# Altium schematic symbol library jumper.SCHLIB: 86 symbols
Pins are listed as number, name and electrical type; pins without a type are passive.

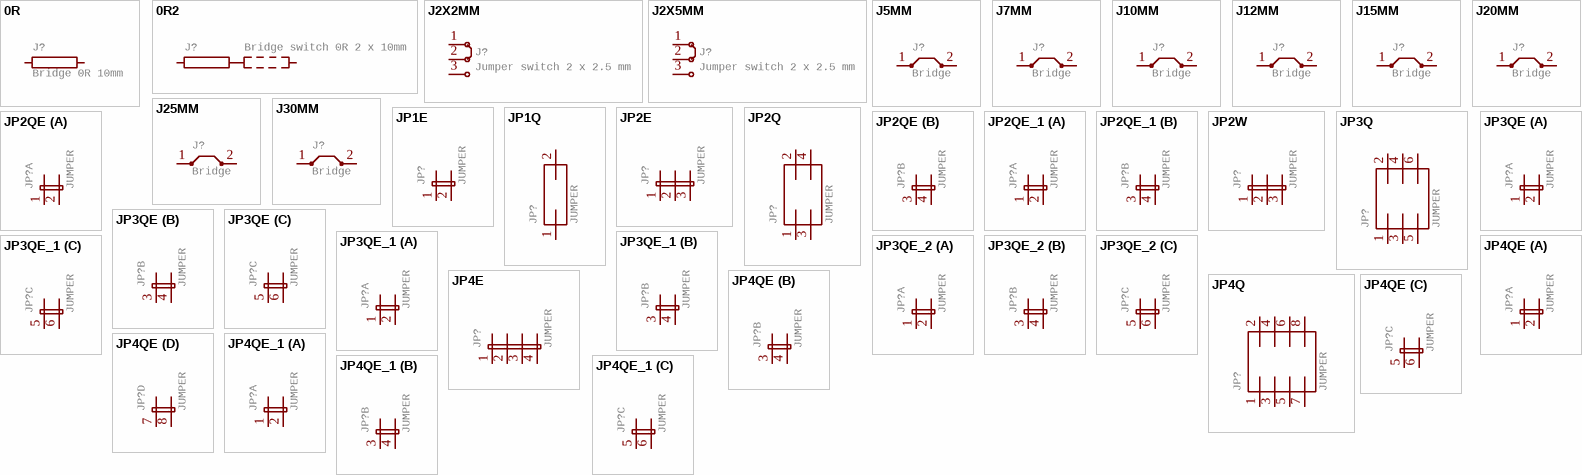
[diagram p0: symbols 0R to JP4QE_1]

## 0R
designator J?, comment Bridge 0R 10mm
GateName_1: 1; POPULARITY: 0; SymbolName_1: 0R; LibraryName: jumper; DeviceSetName: 0R; Package: 0R/10
footprint 0R/10
pins: 1, 2

## 0R2
designator J?, comment Bridge switch 0R 2 x 10mm
GateName_1: 1; SymbolName_1: 0R2; POPULARITY: 0; LibraryName: jumper; DeviceSetName: 0R2; Package: 0R2/10
footprint 0R2/10
pins: 1, 2, 3

## J2X2MM
designator J?, comment Jumper switch 2 x 2.5 mm
GateName_1: G$1; SymbolName_1: J_2; DeviceName: X2MM; DeviceSetName: J2; POPULARITY: 4; LibraryName: jumper; Package: 04C
footprint 04C
pins: 1, 2, 3

## J2X5MM
designator J?, comment Jumper switch 2 x 2.5 mm
GateName_1: G$1; SymbolName_1: J_2; DeviceName: X5MM; DeviceSetName: J2; POPULARITY: 0; LibraryName: jumper; Package: 05C
footprint 05C
pins: 1, 2, 3

## J5MM
designator J?, comment Bridge
GateName_1: 1; SymbolName_1: J; DeviceName: 5MM; POPULARITY: 0; LibraryName: jumper; DeviceSetName: J; Package: 05
footprint 05
pins: 1, 2

## J7MM
designator J?, comment Bridge
GateName_1: 1; SymbolName_1: J; DeviceName: 7MM; POPULARITY: 0; LibraryName: jumper; DeviceSetName: J; Package: 07
footprint 07
pins: 1, 2

## J10MM
designator J?, comment Bridge
GateName_1: 1; SymbolName_1: J; DeviceName: 10MM; POPULARITY: 0; LibraryName: jumper; DeviceSetName: J; Package: 10
footprint 10
pins: 1, 2

## J12MM
designator J?, comment Bridge
GateName_1: 1; SymbolName_1: J; DeviceName: 12MM; POPULARITY: 0; LibraryName: jumper; DeviceSetName: J; Package: 12
footprint 12
pins: 1, 2

## J15MM
designator J?, comment Bridge
GateName_1: 1; SymbolName_1: J; DeviceName: 15MM; POPULARITY: 0; LibraryName: jumper; DeviceSetName: J; Package: 15
footprint 15
pins: 1, 2

## J20MM
designator J?, comment Bridge
GateName_1: 1; SymbolName_1: J; DeviceName: 20MM; POPULARITY: 0; LibraryName: jumper; DeviceSetName: J; Package: 20
footprint 20
pins: 1, 2

## J25MM
designator J?, comment Bridge
GateName_1: 1; SymbolName_1: J; DeviceName: 25MM; POPULARITY: 0; LibraryName: jumper; DeviceSetName: J; Package: 25
footprint 25
pins: 1, 2

## J30MM
designator J?, comment Bridge
GateName_1: 1; SymbolName_1: J; DeviceName: 30MM; POPULARITY: 0; LibraryName: jumper; DeviceSetName: J; Package: 30
footprint 30
pins: 1, 2

## JP1E
designator JP?, comment JUMPER
GateName_1: A; SymbolName_1: JP2E; DeviceSetName: JP1E; POPULARITY: 61; LibraryName: jumper; Package: JP1
footprint JP1
pins: 1, 2

## JP1Q
designator JP?, comment JUMPER
GateName_1: A; SymbolName_1: J1; DeviceSetName: JP1Q; POPULARITY: 15; LibraryName: jumper; Package: JP1
footprint JP1
pins: 1, 2

## JP2E
designator JP?, comment JUMPER
GateName_1: 1; SymbolName_1: JP3E; DeviceSetName: JP2E; POPULARITY: 34; LibraryName: jumper; Package: JP2
footprint JP2
pins: 1, 2, 3

## JP2Q
designator JP?, comment JUMPER
GateName_1: B1; SymbolName_1: J2; DeviceSetName: JP2Q; POPULARITY: 2; LibraryName: jumper; Package: JP2Q
footprint JP2Q
pins: 1, 2, 3, 4

## JP2QE
designator JP?, comment JUMPER
GateName_1: -1; SymbolName_1: JP2E; GateName_2: -2; DeviceSetName: JP2QE; POPULARITY: 1; SymbolName_2: JP2E; LibraryName: jumper; Package: JP2Q
footprint JP2Q
part A pins: 1, 2
part B pins: 3 1, 4 2

## JP2QE_1
designator JP?, comment JUMPER
GateName_1: -1; SymbolName_1: JP2E; GateName_2: -2; DeviceSetName: JP2QE; POPULARITY: 1; SymbolName_2: JP2E; LibraryName: jumper; Package: JP2Q
footprint JP2Q
part A pins: 1, 2
part B pins: 3 1, 4 2

## JP2W
designator JP?, comment JUMPER
GateName_1: 1; SymbolName_1: JP3E; DeviceSetName: JP2W; POPULARITY: 4; LibraryName: jumper; Package: JP2W
footprint JP2W
pins: 1, 2, 3

## JP3Q
designator JP?, comment JUMPER
GateName_1: B; SymbolName_1: J3; DeviceSetName: JP3Q; POPULARITY: 5; LibraryName: jumper; Package: JP3Q
footprint JP3Q
pins: 1, 2, 3, 4, 5, 6

## JP3QE
designator JP?, comment JUMPER
GateName_1: -1; SymbolName_1: JP2E; GateName_2: -2; GateName_3: -3; DeviceSetName: JP3QE; POPULARITY: 0; SymbolName_2: JP2E; SymbolName_3: JP2E; LibraryName: jumper; Package: JP3Q
footprint JP3Q
part A pins: 1, 2
part B pins: 3 1, 4 2
part C pins: 5 1, 6 2

## JP3QE_1
designator JP?, comment JUMPER
GateName_1: -1; SymbolName_1: JP2E; GateName_2: -2; GateName_3: -3; DeviceSetName: JP3QE; POPULARITY: 0; SymbolName_2: JP2E; SymbolName_3: JP2E; LibraryName: jumper; Package: JP3Q
footprint JP3Q
part A pins: 1, 2
part B pins: 3 1, 4 2
part C pins: 5 1, 6 2

## JP3QE_2
designator JP?, comment JUMPER
GateName_1: -1; SymbolName_1: JP2E; GateName_2: -2; GateName_3: -3; DeviceSetName: JP3QE; POPULARITY: 0; SymbolName_2: JP2E; SymbolName_3: JP2E; LibraryName: jumper; Package: JP3Q
footprint JP3Q
part A pins: 1, 2
part B pins: 3 1, 4 2
part C pins: 5 1, 6 2

## JP4E
designator JP?, comment JUMPER
GateName_1: G$1; SymbolName_1: JP4E; POPULARITY: 15; LibraryName: jumper; DeviceSetName: JP4E; Package: JP4
footprint JP4
pins: 1, 2, 3, 4

## JP4Q
designator JP?, comment JUMPER
GateName_1: B; SymbolName_1: J4; DeviceSetName: JP4Q; POPULARITY: 2; LibraryName: jumper; Package: JP4Q
footprint JP4Q
pins: 1, 2, 3, 4, 5, 6, 7, 8

## JP4QE
designator JP?, comment JUMPER
GateName_1: -1; SymbolName_1: JP2E; GateName_2: -2; GateName_3: -3; GateName_4: -4; DeviceSetName: JP4QE; POPULARITY: 0; SymbolName_2: JP2E; SymbolName_3: JP2E; SymbolName_4: JP2E; LibraryName: jumper; Package: JP4Q
footprint JP4Q
part A pins: 1, 2
part B pins: 3 1, 4 2
part C pins: 5 1, 6 2
part D pins: 7 1, 8 2

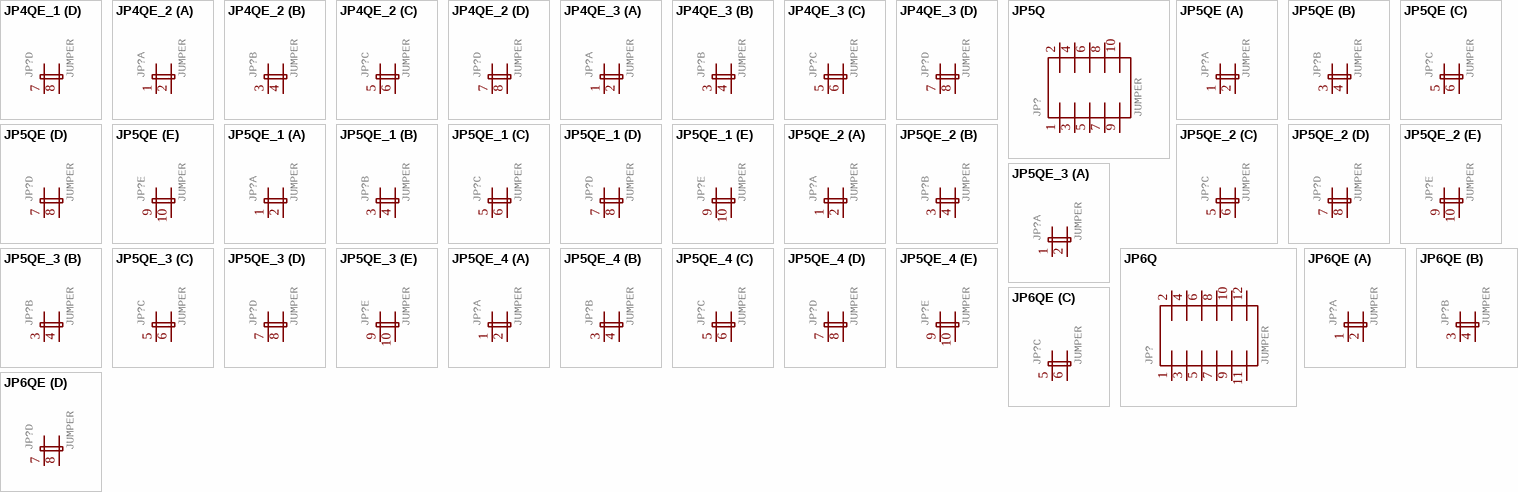
[diagram p1: symbols JP4QE_1 to JP6QE]

## JP4QE_1
designator JP?, comment JUMPER
GateName_1: -1; SymbolName_1: JP2E; GateName_2: -2; GateName_3: -3; GateName_4: -4; DeviceSetName: JP4QE; POPULARITY: 0; SymbolName_2: JP2E; SymbolName_3: JP2E; SymbolName_4: JP2E; LibraryName: jumper; Package: JP4Q
footprint JP4Q
part A pins: 1, 2
part B pins: 3 1, 4 2
part C pins: 5 1, 6 2
part D pins: 7 1, 8 2

## JP4QE_2
designator JP?, comment JUMPER
GateName_1: -1; SymbolName_1: JP2E; GateName_2: -2; GateName_3: -3; GateName_4: -4; DeviceSetName: JP4QE; POPULARITY: 0; SymbolName_2: JP2E; SymbolName_3: JP2E; SymbolName_4: JP2E; LibraryName: jumper; Package: JP4Q
footprint JP4Q
part A pins: 1, 2
part B pins: 3 1, 4 2
part C pins: 5 1, 6 2
part D pins: 7 1, 8 2

## JP4QE_3
designator JP?, comment JUMPER
GateName_1: -1; SymbolName_1: JP2E; GateName_2: -2; GateName_3: -3; GateName_4: -4; DeviceSetName: JP4QE; POPULARITY: 0; SymbolName_2: JP2E; SymbolName_3: JP2E; SymbolName_4: JP2E; LibraryName: jumper; Package: JP4Q
footprint JP4Q
part A pins: 1, 2
part B pins: 3 1, 4 2
part C pins: 5 1, 6 2
part D pins: 7 1, 8 2

## JP5Q
designator JP?, comment JUMPER
GateName_1: B; SymbolName_1: J5; DeviceSetName: JP5Q; POPULARITY: 1; LibraryName: jumper; Package: JP5Q
footprint JP5Q
pins: 1, 2, 3, 4, 5, 6, 7, 8, 9, 10

## JP5QE
designator JP?, comment JUMPER
GateName_1: -1; SymbolName_1: JP2E; GateName_2: -2; GateName_3: -3; GateName_4: -4; GateName_5: -5; DeviceSetName: JP5QE; POPULARITY: 2; SymbolName_2: JP2E; SymbolName_3: JP2E; SymbolName_4: JP2E; SymbolName_5: JP2E; LibraryName: jumper; Package: JP5Q
footprint JP5Q
part A pins: 1, 2
part B pins: 3 1, 4 2
part C pins: 5 1, 6 2
part D pins: 7 1, 8 2
part E pins: 9 1, 10 2

## JP5QE_1
designator JP?, comment JUMPER
GateName_1: -1; SymbolName_1: JP2E; GateName_2: -2; GateName_3: -3; GateName_4: -4; GateName_5: -5; DeviceSetName: JP5QE; POPULARITY: 2; SymbolName_2: JP2E; SymbolName_3: JP2E; SymbolName_4: JP2E; SymbolName_5: JP2E; LibraryName: jumper; Package: JP5Q
footprint JP5Q
part A pins: 1, 2
part B pins: 3 1, 4 2
part C pins: 5 1, 6 2
part D pins: 7 1, 8 2
part E pins: 9 1, 10 2

## JP5QE_2
designator JP?, comment JUMPER
GateName_1: -1; SymbolName_1: JP2E; GateName_2: -2; GateName_3: -3; GateName_4: -4; GateName_5: -5; DeviceSetName: JP5QE; POPULARITY: 2; SymbolName_2: JP2E; SymbolName_3: JP2E; SymbolName_4: JP2E; SymbolName_5: JP2E; LibraryName: jumper; Package: JP5Q
footprint JP5Q
part A pins: 1, 2
part B pins: 3 1, 4 2
part C pins: 5 1, 6 2
part D pins: 7 1, 8 2
part E pins: 9 1, 10 2

## JP5QE_3
designator JP?, comment JUMPER
GateName_1: -1; SymbolName_1: JP2E; GateName_2: -2; GateName_3: -3; GateName_4: -4; GateName_5: -5; DeviceSetName: JP5QE; POPULARITY: 2; SymbolName_2: JP2E; SymbolName_3: JP2E; SymbolName_4: JP2E; SymbolName_5: JP2E; LibraryName: jumper; Package: JP5Q
footprint JP5Q
part A pins: 1, 2
part B pins: 3 1, 4 2
part C pins: 5 1, 6 2
part D pins: 7 1, 8 2
part E pins: 9 1, 10 2

## JP5QE_4
designator JP?, comment JUMPER
GateName_1: -1; SymbolName_1: JP2E; GateName_2: -2; GateName_3: -3; GateName_4: -4; GateName_5: -5; DeviceSetName: JP5QE; POPULARITY: 2; SymbolName_2: JP2E; SymbolName_3: JP2E; SymbolName_4: JP2E; SymbolName_5: JP2E; LibraryName: jumper; Package: JP5Q
footprint JP5Q
part A pins: 1, 2
part B pins: 3 1, 4 2
part C pins: 5 1, 6 2
part D pins: 7 1, 8 2
part E pins: 9 1, 10 2

## JP6Q
designator JP?, comment JUMPER
GateName_1: B; SymbolName_1: J6; DeviceSetName: JP6Q; POPULARITY: 3; LibraryName: jumper; Package: JP6Q
footprint JP6Q
pins: 1, 2, 3, 4, 5, 6, 7, 8, 9, 10, 11, 12

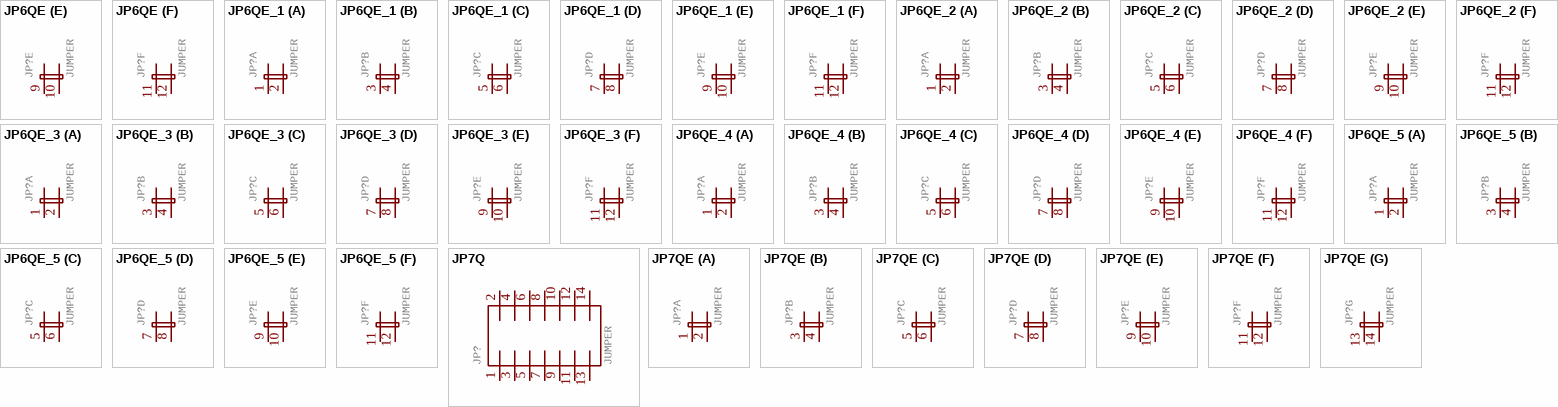
[diagram p2: symbols JP6QE to JP7QE]

## JP6QE
designator JP?, comment JUMPER
GateName_1: -1; SymbolName_1: JP2E; GateName_2: -2; GateName_3: -3; GateName_4: -4; GateName_5: -5; GateName_6: -6; DeviceSetName: JP6QE; POPULARITY: 0; SymbolName_2: JP2E; SymbolName_3: JP2E; SymbolName_4: JP2E; SymbolName_5: JP2E; SymbolName_6: JP2E; LibraryName: jumper; Package: JP6Q
footprint JP6Q
part A pins: 1, 2
part B pins: 3 1, 4 2
part C pins: 5 1, 6 2
part D pins: 7 1, 8 2
part E pins: 9 1, 10 2
part F pins: 11 1, 12 2

## JP6QE_1
designator JP?, comment JUMPER
GateName_1: -1; SymbolName_1: JP2E; GateName_2: -2; GateName_3: -3; GateName_4: -4; GateName_5: -5; GateName_6: -6; DeviceSetName: JP6QE; POPULARITY: 0; SymbolName_2: JP2E; SymbolName_3: JP2E; SymbolName_4: JP2E; SymbolName_5: JP2E; SymbolName_6: JP2E; LibraryName: jumper; Package: JP6Q
footprint JP6Q
part A pins: 1, 2
part B pins: 3 1, 4 2
part C pins: 5 1, 6 2
part D pins: 7 1, 8 2
part E pins: 9 1, 10 2
part F pins: 11 1, 12 2

## JP6QE_2
designator JP?, comment JUMPER
GateName_1: -1; SymbolName_1: JP2E; GateName_2: -2; GateName_3: -3; GateName_4: -4; GateName_5: -5; GateName_6: -6; DeviceSetName: JP6QE; POPULARITY: 0; SymbolName_2: JP2E; SymbolName_3: JP2E; SymbolName_4: JP2E; SymbolName_5: JP2E; SymbolName_6: JP2E; LibraryName: jumper; Package: JP6Q
footprint JP6Q
part A pins: 1, 2
part B pins: 3 1, 4 2
part C pins: 5 1, 6 2
part D pins: 7 1, 8 2
part E pins: 9 1, 10 2
part F pins: 11 1, 12 2

## JP6QE_3
designator JP?, comment JUMPER
GateName_1: -1; SymbolName_1: JP2E; GateName_2: -2; GateName_3: -3; GateName_4: -4; GateName_5: -5; GateName_6: -6; DeviceSetName: JP6QE; POPULARITY: 0; SymbolName_2: JP2E; SymbolName_3: JP2E; SymbolName_4: JP2E; SymbolName_5: JP2E; SymbolName_6: JP2E; LibraryName: jumper; Package: JP6Q
footprint JP6Q
part A pins: 1, 2
part B pins: 3 1, 4 2
part C pins: 5 1, 6 2
part D pins: 7 1, 8 2
part E pins: 9 1, 10 2
part F pins: 11 1, 12 2

## JP6QE_4
designator JP?, comment JUMPER
GateName_1: -1; SymbolName_1: JP2E; GateName_2: -2; GateName_3: -3; GateName_4: -4; GateName_5: -5; GateName_6: -6; DeviceSetName: JP6QE; POPULARITY: 0; SymbolName_2: JP2E; SymbolName_3: JP2E; SymbolName_4: JP2E; SymbolName_5: JP2E; SymbolName_6: JP2E; LibraryName: jumper; Package: JP6Q
footprint JP6Q
part A pins: 1, 2
part B pins: 3 1, 4 2
part C pins: 5 1, 6 2
part D pins: 7 1, 8 2
part E pins: 9 1, 10 2
part F pins: 11 1, 12 2

## JP6QE_5
designator JP?, comment JUMPER
GateName_1: -1; SymbolName_1: JP2E; GateName_2: -2; GateName_3: -3; GateName_4: -4; GateName_5: -5; GateName_6: -6; DeviceSetName: JP6QE; POPULARITY: 0; SymbolName_2: JP2E; SymbolName_3: JP2E; SymbolName_4: JP2E; SymbolName_5: JP2E; SymbolName_6: JP2E; LibraryName: jumper; Package: JP6Q
footprint JP6Q
part A pins: 1, 2
part B pins: 3 1, 4 2
part C pins: 5 1, 6 2
part D pins: 7 1, 8 2
part E pins: 9 1, 10 2
part F pins: 11 1, 12 2

## JP7Q
designator JP?, comment JUMPER
GateName_1: B; SymbolName_1: J7; DeviceSetName: JP7Q; POPULARITY: 2; LibraryName: jumper; Package: JP7Q
footprint JP7Q
pins: 1, 2, 3, 4, 5, 6, 7, 8, 9, 10, 11, 12, 13, 14

## JP7QE
designator JP?, comment JUMPER
GateName_1: -1; SymbolName_1: JP2E; GateName_2: -2; GateName_3: -3; GateName_4: -4; GateName_5: -5; GateName_6: -6; GateName_7: -7; DeviceSetName: JP7QE; POPULARITY: 0; SymbolName_2: JP2E; SymbolName_3: JP2E; SymbolName_4: JP2E; SymbolName_5: JP2E; SymbolName_6: JP2E; SymbolName_7: JP2E; LibraryName: jumper; Package: JP7Q
footprint JP7Q
part A pins: 1, 2
part B pins: 3 1, 4 2
part C pins: 5 1, 6 2
part D pins: 7 1, 8 2
part E pins: 9 1, 10 2
part F pins: 11 1, 12 2
part G pins: 13 1, 14 2

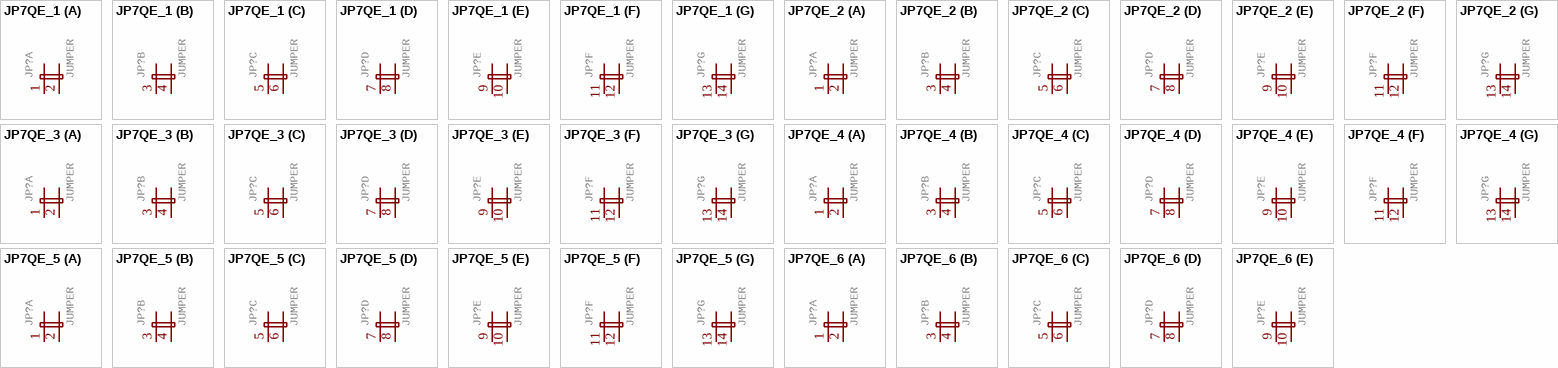
[diagram p3: symbols JP7QE_1 to JP7QE_6]

## JP7QE_1
designator JP?, comment JUMPER
GateName_1: -1; SymbolName_1: JP2E; GateName_2: -2; GateName_3: -3; GateName_4: -4; GateName_5: -5; GateName_6: -6; GateName_7: -7; DeviceSetName: JP7QE; POPULARITY: 0; SymbolName_2: JP2E; SymbolName_3: JP2E; SymbolName_4: JP2E; SymbolName_5: JP2E; SymbolName_6: JP2E; SymbolName_7: JP2E; LibraryName: jumper; Package: JP7Q
footprint JP7Q
part A pins: 1, 2
part B pins: 3 1, 4 2
part C pins: 5 1, 6 2
part D pins: 7 1, 8 2
part E pins: 9 1, 10 2
part F pins: 11 1, 12 2
part G pins: 13 1, 14 2

## JP7QE_2
designator JP?, comment JUMPER
GateName_1: -1; SymbolName_1: JP2E; GateName_2: -2; GateName_3: -3; GateName_4: -4; GateName_5: -5; GateName_6: -6; GateName_7: -7; DeviceSetName: JP7QE; POPULARITY: 0; SymbolName_2: JP2E; SymbolName_3: JP2E; SymbolName_4: JP2E; SymbolName_5: JP2E; SymbolName_6: JP2E; SymbolName_7: JP2E; LibraryName: jumper; Package: JP7Q
footprint JP7Q
part A pins: 1, 2
part B pins: 3 1, 4 2
part C pins: 5 1, 6 2
part D pins: 7 1, 8 2
part E pins: 9 1, 10 2
part F pins: 11 1, 12 2
part G pins: 13 1, 14 2

## JP7QE_3
designator JP?, comment JUMPER
GateName_1: -1; SymbolName_1: JP2E; GateName_2: -2; GateName_3: -3; GateName_4: -4; GateName_5: -5; GateName_6: -6; GateName_7: -7; DeviceSetName: JP7QE; POPULARITY: 0; SymbolName_2: JP2E; SymbolName_3: JP2E; SymbolName_4: JP2E; SymbolName_5: JP2E; SymbolName_6: JP2E; SymbolName_7: JP2E; LibraryName: jumper; Package: JP7Q
footprint JP7Q
part A pins: 1, 2
part B pins: 3 1, 4 2
part C pins: 5 1, 6 2
part D pins: 7 1, 8 2
part E pins: 9 1, 10 2
part F pins: 11 1, 12 2
part G pins: 13 1, 14 2

## JP7QE_4
designator JP?, comment JUMPER
GateName_1: -1; SymbolName_1: JP2E; GateName_2: -2; GateName_3: -3; GateName_4: -4; GateName_5: -5; GateName_6: -6; GateName_7: -7; DeviceSetName: JP7QE; POPULARITY: 0; SymbolName_2: JP2E; SymbolName_3: JP2E; SymbolName_4: JP2E; SymbolName_5: JP2E; SymbolName_6: JP2E; SymbolName_7: JP2E; LibraryName: jumper; Package: JP7Q
footprint JP7Q
part A pins: 1, 2
part B pins: 3 1, 4 2
part C pins: 5 1, 6 2
part D pins: 7 1, 8 2
part E pins: 9 1, 10 2
part F pins: 11 1, 12 2
part G pins: 13 1, 14 2

## JP7QE_5
designator JP?, comment JUMPER
GateName_1: -1; SymbolName_1: JP2E; GateName_2: -2; GateName_3: -3; GateName_4: -4; GateName_5: -5; GateName_6: -6; GateName_7: -7; DeviceSetName: JP7QE; POPULARITY: 0; SymbolName_2: JP2E; SymbolName_3: JP2E; SymbolName_4: JP2E; SymbolName_5: JP2E; SymbolName_6: JP2E; SymbolName_7: JP2E; LibraryName: jumper; Package: JP7Q
footprint JP7Q
part A pins: 1, 2
part B pins: 3 1, 4 2
part C pins: 5 1, 6 2
part D pins: 7 1, 8 2
part E pins: 9 1, 10 2
part F pins: 11 1, 12 2
part G pins: 13 1, 14 2

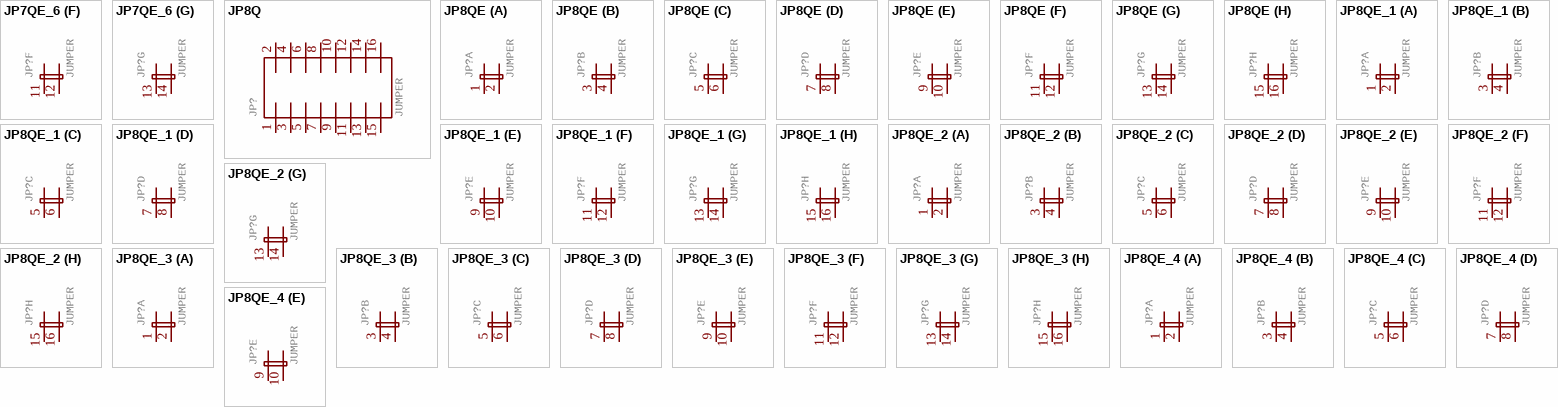
[diagram p4: symbols JP7QE_6 to JP8QE_4]

## JP7QE_6
designator JP?, comment JUMPER
GateName_1: -1; SymbolName_1: JP2E; GateName_2: -2; GateName_3: -3; GateName_4: -4; GateName_5: -5; GateName_6: -6; GateName_7: -7; DeviceSetName: JP7QE; POPULARITY: 0; SymbolName_2: JP2E; SymbolName_3: JP2E; SymbolName_4: JP2E; SymbolName_5: JP2E; SymbolName_6: JP2E; SymbolName_7: JP2E; LibraryName: jumper; Package: JP7Q
footprint JP7Q
part A pins: 1, 2
part B pins: 3 1, 4 2
part C pins: 5 1, 6 2
part D pins: 7 1, 8 2
part E pins: 9 1, 10 2
part F pins: 11 1, 12 2
part G pins: 13 1, 14 2

## JP8Q
designator JP?, comment JUMPER
GateName_1: B; SymbolName_1: J8; DeviceSetName: JP8Q; POPULARITY: 2; LibraryName: jumper; Package: JP8Q
footprint JP8Q
pins: 1, 2, 3, 4, 5, 6, 7, 8, 9, 10, 11, 12, 13, 14, 15, 16

## JP8QE
designator JP?, comment JUMPER
GateName_1: -1; SymbolName_1: JP2E; GateName_2: -2; GateName_3: -3; GateName_4: -4; GateName_5: -5; GateName_6: -6; GateName_7: -7; GateName_8: -8; DeviceSetName: JP8QE; POPULARITY: 1; SymbolName_2: JP2E; SymbolName_3: JP2E; SymbolName_4: JP2E; SymbolName_5: JP2E; SymbolName_6: JP2E; SymbolName_7: JP2E; SymbolName_8: JP2E; LibraryName: jumper; Package: JP8Q
footprint JP8Q
part A pins: 1, 2
part B pins: 3 1, 4 2
part C pins: 5 1, 6 2
part D pins: 7 1, 8 2
part E pins: 9 1, 10 2
part F pins: 11 1, 12 2
part G pins: 13 1, 14 2
part H pins: 15 1, 16 2

## JP8QE_1
designator JP?, comment JUMPER
GateName_1: -1; SymbolName_1: JP2E; GateName_2: -2; GateName_3: -3; GateName_4: -4; GateName_5: -5; GateName_6: -6; GateName_7: -7; GateName_8: -8; DeviceSetName: JP8QE; POPULARITY: 1; SymbolName_2: JP2E; SymbolName_3: JP2E; SymbolName_4: JP2E; SymbolName_5: JP2E; SymbolName_6: JP2E; SymbolName_7: JP2E; SymbolName_8: JP2E; LibraryName: jumper; Package: JP8Q
footprint JP8Q
part A pins: 1, 2
part B pins: 3 1, 4 2
part C pins: 5 1, 6 2
part D pins: 7 1, 8 2
part E pins: 9 1, 10 2
part F pins: 11 1, 12 2
part G pins: 13 1, 14 2
part H pins: 15 1, 16 2

## JP8QE_2
designator JP?, comment JUMPER
GateName_1: -1; SymbolName_1: JP2E; GateName_2: -2; GateName_3: -3; GateName_4: -4; GateName_5: -5; GateName_6: -6; GateName_7: -7; GateName_8: -8; DeviceSetName: JP8QE; POPULARITY: 1; SymbolName_2: JP2E; SymbolName_3: JP2E; SymbolName_4: JP2E; SymbolName_5: JP2E; SymbolName_6: JP2E; SymbolName_7: JP2E; SymbolName_8: JP2E; LibraryName: jumper; Package: JP8Q
footprint JP8Q
part A pins: 1, 2
part B pins: 3 1, 4 2
part C pins: 5 1, 6 2
part D pins: 7 1, 8 2
part E pins: 9 1, 10 2
part F pins: 11 1, 12 2
part G pins: 13 1, 14 2
part H pins: 15 1, 16 2

## JP8QE_3
designator JP?, comment JUMPER
GateName_1: -1; SymbolName_1: JP2E; GateName_2: -2; GateName_3: -3; GateName_4: -4; GateName_5: -5; GateName_6: -6; GateName_7: -7; GateName_8: -8; DeviceSetName: JP8QE; POPULARITY: 1; SymbolName_2: JP2E; SymbolName_3: JP2E; SymbolName_4: JP2E; SymbolName_5: JP2E; SymbolName_6: JP2E; SymbolName_7: JP2E; SymbolName_8: JP2E; LibraryName: jumper; Package: JP8Q
footprint JP8Q
part A pins: 1, 2
part B pins: 3 1, 4 2
part C pins: 5 1, 6 2
part D pins: 7 1, 8 2
part E pins: 9 1, 10 2
part F pins: 11 1, 12 2
part G pins: 13 1, 14 2
part H pins: 15 1, 16 2

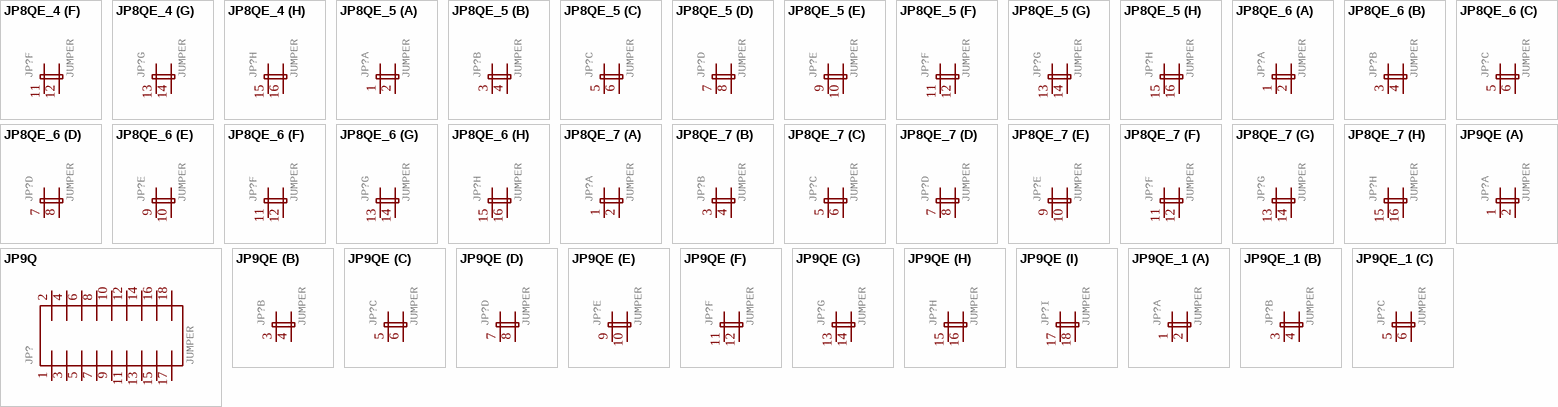
[diagram p5: symbols JP8QE_4 to JP9QE_1]

## JP8QE_4
designator JP?, comment JUMPER
GateName_1: -1; SymbolName_1: JP2E; GateName_2: -2; GateName_3: -3; GateName_4: -4; GateName_5: -5; GateName_6: -6; GateName_7: -7; GateName_8: -8; DeviceSetName: JP8QE; POPULARITY: 1; SymbolName_2: JP2E; SymbolName_3: JP2E; SymbolName_4: JP2E; SymbolName_5: JP2E; SymbolName_6: JP2E; SymbolName_7: JP2E; SymbolName_8: JP2E; LibraryName: jumper; Package: JP8Q
footprint JP8Q
part A pins: 1, 2
part B pins: 3 1, 4 2
part C pins: 5 1, 6 2
part D pins: 7 1, 8 2
part E pins: 9 1, 10 2
part F pins: 11 1, 12 2
part G pins: 13 1, 14 2
part H pins: 15 1, 16 2

## JP8QE_5
designator JP?, comment JUMPER
GateName_1: -1; SymbolName_1: JP2E; GateName_2: -2; GateName_3: -3; GateName_4: -4; GateName_5: -5; GateName_6: -6; GateName_7: -7; GateName_8: -8; DeviceSetName: JP8QE; POPULARITY: 1; SymbolName_2: JP2E; SymbolName_3: JP2E; SymbolName_4: JP2E; SymbolName_5: JP2E; SymbolName_6: JP2E; SymbolName_7: JP2E; SymbolName_8: JP2E; LibraryName: jumper; Package: JP8Q
footprint JP8Q
part A pins: 1, 2
part B pins: 3 1, 4 2
part C pins: 5 1, 6 2
part D pins: 7 1, 8 2
part E pins: 9 1, 10 2
part F pins: 11 1, 12 2
part G pins: 13 1, 14 2
part H pins: 15 1, 16 2

## JP8QE_6
designator JP?, comment JUMPER
GateName_1: -1; SymbolName_1: JP2E; GateName_2: -2; GateName_3: -3; GateName_4: -4; GateName_5: -5; GateName_6: -6; GateName_7: -7; GateName_8: -8; DeviceSetName: JP8QE; POPULARITY: 1; SymbolName_2: JP2E; SymbolName_3: JP2E; SymbolName_4: JP2E; SymbolName_5: JP2E; SymbolName_6: JP2E; SymbolName_7: JP2E; SymbolName_8: JP2E; LibraryName: jumper; Package: JP8Q
footprint JP8Q
part A pins: 1, 2
part B pins: 3 1, 4 2
part C pins: 5 1, 6 2
part D pins: 7 1, 8 2
part E pins: 9 1, 10 2
part F pins: 11 1, 12 2
part G pins: 13 1, 14 2
part H pins: 15 1, 16 2

## JP8QE_7
designator JP?, comment JUMPER
GateName_1: -1; SymbolName_1: JP2E; GateName_2: -2; GateName_3: -3; GateName_4: -4; GateName_5: -5; GateName_6: -6; GateName_7: -7; GateName_8: -8; DeviceSetName: JP8QE; POPULARITY: 1; SymbolName_2: JP2E; SymbolName_3: JP2E; SymbolName_4: JP2E; SymbolName_5: JP2E; SymbolName_6: JP2E; SymbolName_7: JP2E; SymbolName_8: JP2E; LibraryName: jumper; Package: JP8Q
footprint JP8Q
part A pins: 1, 2
part B pins: 3 1, 4 2
part C pins: 5 1, 6 2
part D pins: 7 1, 8 2
part E pins: 9 1, 10 2
part F pins: 11 1, 12 2
part G pins: 13 1, 14 2
part H pins: 15 1, 16 2

## JP9Q
designator JP?, comment JUMPER
GateName_1: B; SymbolName_1: J9; DeviceSetName: JP9Q; POPULARITY: 1; LibraryName: jumper; Package: JP9Q
footprint JP9Q
pins: 1, 2, 3, 4, 5, 6, 7, 8, 9, 10, 11, 12, 13, 14, 15, 16, 17, 18

## JP9QE
designator JP?, comment JUMPER
GateName_1: -1; SymbolName_1: JP2E; GateName_2: -2; GateName_3: -3; GateName_4: -4; GateName_5: -5; GateName_6: -6; GateName_7: -7; GateName_8: -8; GateName_9: -9; DeviceSetName: JP9QE; POPULARITY: 0; SymbolName_2: JP2E; SymbolName_3: JP2E; SymbolName_4: JP2E; SymbolName_5: JP2E; SymbolName_6: JP2E; SymbolName_7: JP2E; SymbolName_8: JP2E; SymbolName_9: JP2E; LibraryName: jumper; Package: JP9Q
footprint JP9Q
part A pins: 1, 2
part B pins: 3 1, 4 2
part C pins: 5 1, 6 2
part D pins: 7 1, 8 2
part E pins: 9 1, 10 2
part F pins: 11 1, 12 2
part G pins: 13 1, 14 2
part H pins: 15 1, 16 2
part I pins: 17 1, 18 2

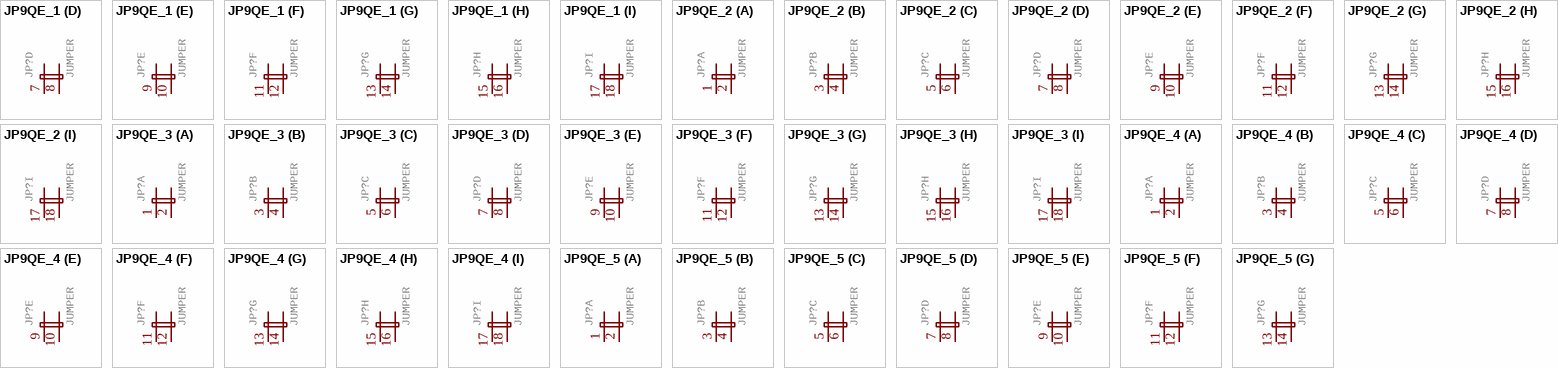
[diagram p6: symbols JP9QE_1 to JP9QE_5]

## JP9QE_1
designator JP?, comment JUMPER
GateName_1: -1; SymbolName_1: JP2E; GateName_2: -2; GateName_3: -3; GateName_4: -4; GateName_5: -5; GateName_6: -6; GateName_7: -7; GateName_8: -8; GateName_9: -9; DeviceSetName: JP9QE; POPULARITY: 0; SymbolName_2: JP2E; SymbolName_3: JP2E; SymbolName_4: JP2E; SymbolName_5: JP2E; SymbolName_6: JP2E; SymbolName_7: JP2E; SymbolName_8: JP2E; SymbolName_9: JP2E; LibraryName: jumper; Package: JP9Q
footprint JP9Q
part A pins: 1, 2
part B pins: 3 1, 4 2
part C pins: 5 1, 6 2
part D pins: 7 1, 8 2
part E pins: 9 1, 10 2
part F pins: 11 1, 12 2
part G pins: 13 1, 14 2
part H pins: 15 1, 16 2
part I pins: 17 1, 18 2

## JP9QE_2
designator JP?, comment JUMPER
GateName_1: -1; SymbolName_1: JP2E; GateName_2: -2; GateName_3: -3; GateName_4: -4; GateName_5: -5; GateName_6: -6; GateName_7: -7; GateName_8: -8; GateName_9: -9; DeviceSetName: JP9QE; POPULARITY: 0; SymbolName_2: JP2E; SymbolName_3: JP2E; SymbolName_4: JP2E; SymbolName_5: JP2E; SymbolName_6: JP2E; SymbolName_7: JP2E; SymbolName_8: JP2E; SymbolName_9: JP2E; LibraryName: jumper; Package: JP9Q
footprint JP9Q
part A pins: 1, 2
part B pins: 3 1, 4 2
part C pins: 5 1, 6 2
part D pins: 7 1, 8 2
part E pins: 9 1, 10 2
part F pins: 11 1, 12 2
part G pins: 13 1, 14 2
part H pins: 15 1, 16 2
part I pins: 17 1, 18 2

## JP9QE_3
designator JP?, comment JUMPER
GateName_1: -1; SymbolName_1: JP2E; GateName_2: -2; GateName_3: -3; GateName_4: -4; GateName_5: -5; GateName_6: -6; GateName_7: -7; GateName_8: -8; GateName_9: -9; DeviceSetName: JP9QE; POPULARITY: 0; SymbolName_2: JP2E; SymbolName_3: JP2E; SymbolName_4: JP2E; SymbolName_5: JP2E; SymbolName_6: JP2E; SymbolName_7: JP2E; SymbolName_8: JP2E; SymbolName_9: JP2E; LibraryName: jumper; Package: JP9Q
footprint JP9Q
part A pins: 1, 2
part B pins: 3 1, 4 2
part C pins: 5 1, 6 2
part D pins: 7 1, 8 2
part E pins: 9 1, 10 2
part F pins: 11 1, 12 2
part G pins: 13 1, 14 2
part H pins: 15 1, 16 2
part I pins: 17 1, 18 2

## JP9QE_4
designator JP?, comment JUMPER
GateName_1: -1; SymbolName_1: JP2E; GateName_2: -2; GateName_3: -3; GateName_4: -4; GateName_5: -5; GateName_6: -6; GateName_7: -7; GateName_8: -8; GateName_9: -9; DeviceSetName: JP9QE; POPULARITY: 0; SymbolName_2: JP2E; SymbolName_3: JP2E; SymbolName_4: JP2E; SymbolName_5: JP2E; SymbolName_6: JP2E; SymbolName_7: JP2E; SymbolName_8: JP2E; SymbolName_9: JP2E; LibraryName: jumper; Package: JP9Q
footprint JP9Q
part A pins: 1, 2
part B pins: 3 1, 4 2
part C pins: 5 1, 6 2
part D pins: 7 1, 8 2
part E pins: 9 1, 10 2
part F pins: 11 1, 12 2
part G pins: 13 1, 14 2
part H pins: 15 1, 16 2
part I pins: 17 1, 18 2

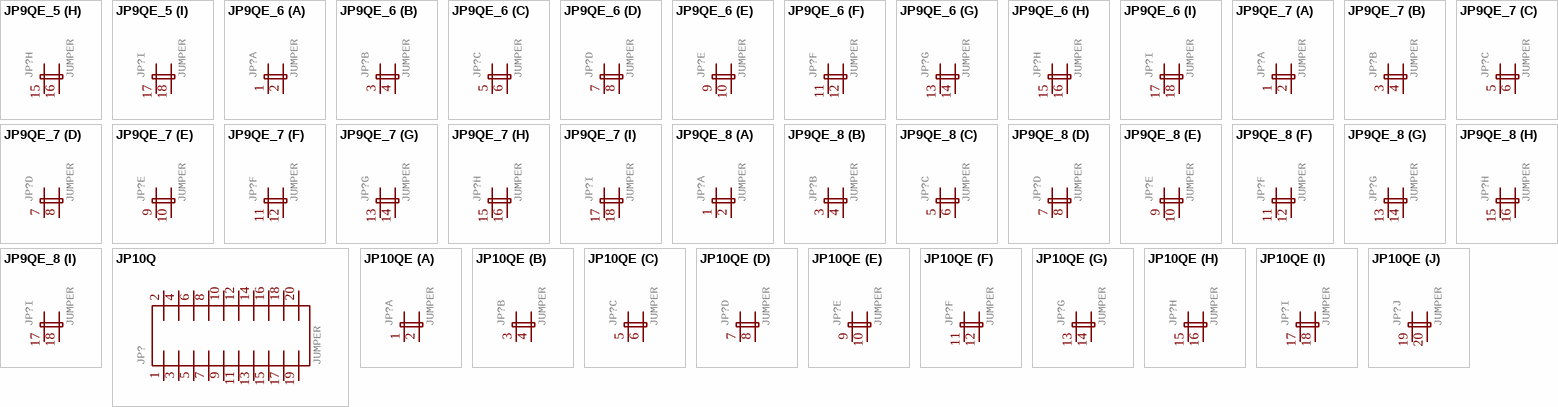
[diagram p7: symbols JP9QE_5 to JP10QE]

## JP9QE_5
designator JP?, comment JUMPER
GateName_1: -1; SymbolName_1: JP2E; GateName_2: -2; GateName_3: -3; GateName_4: -4; GateName_5: -5; GateName_6: -6; GateName_7: -7; GateName_8: -8; GateName_9: -9; DeviceSetName: JP9QE; POPULARITY: 0; SymbolName_2: JP2E; SymbolName_3: JP2E; SymbolName_4: JP2E; SymbolName_5: JP2E; SymbolName_6: JP2E; SymbolName_7: JP2E; SymbolName_8: JP2E; SymbolName_9: JP2E; LibraryName: jumper; Package: JP9Q
footprint JP9Q
part A pins: 1, 2
part B pins: 3 1, 4 2
part C pins: 5 1, 6 2
part D pins: 7 1, 8 2
part E pins: 9 1, 10 2
part F pins: 11 1, 12 2
part G pins: 13 1, 14 2
part H pins: 15 1, 16 2
part I pins: 17 1, 18 2

## JP9QE_6
designator JP?, comment JUMPER
GateName_1: -1; SymbolName_1: JP2E; GateName_2: -2; GateName_3: -3; GateName_4: -4; GateName_5: -5; GateName_6: -6; GateName_7: -7; GateName_8: -8; GateName_9: -9; DeviceSetName: JP9QE; POPULARITY: 0; SymbolName_2: JP2E; SymbolName_3: JP2E; SymbolName_4: JP2E; SymbolName_5: JP2E; SymbolName_6: JP2E; SymbolName_7: JP2E; SymbolName_8: JP2E; SymbolName_9: JP2E; LibraryName: jumper; Package: JP9Q
footprint JP9Q
part A pins: 1, 2
part B pins: 3 1, 4 2
part C pins: 5 1, 6 2
part D pins: 7 1, 8 2
part E pins: 9 1, 10 2
part F pins: 11 1, 12 2
part G pins: 13 1, 14 2
part H pins: 15 1, 16 2
part I pins: 17 1, 18 2

## JP9QE_7
designator JP?, comment JUMPER
GateName_1: -1; SymbolName_1: JP2E; GateName_2: -2; GateName_3: -3; GateName_4: -4; GateName_5: -5; GateName_6: -6; GateName_7: -7; GateName_8: -8; GateName_9: -9; DeviceSetName: JP9QE; POPULARITY: 0; SymbolName_2: JP2E; SymbolName_3: JP2E; SymbolName_4: JP2E; SymbolName_5: JP2E; SymbolName_6: JP2E; SymbolName_7: JP2E; SymbolName_8: JP2E; SymbolName_9: JP2E; LibraryName: jumper; Package: JP9Q
footprint JP9Q
part A pins: 1, 2
part B pins: 3 1, 4 2
part C pins: 5 1, 6 2
part D pins: 7 1, 8 2
part E pins: 9 1, 10 2
part F pins: 11 1, 12 2
part G pins: 13 1, 14 2
part H pins: 15 1, 16 2
part I pins: 17 1, 18 2

## JP9QE_8
designator JP?, comment JUMPER
GateName_1: -1; SymbolName_1: JP2E; GateName_2: -2; GateName_3: -3; GateName_4: -4; GateName_5: -5; GateName_6: -6; GateName_7: -7; GateName_8: -8; GateName_9: -9; DeviceSetName: JP9QE; POPULARITY: 0; SymbolName_2: JP2E; SymbolName_3: JP2E; SymbolName_4: JP2E; SymbolName_5: JP2E; SymbolName_6: JP2E; SymbolName_7: JP2E; SymbolName_8: JP2E; SymbolName_9: JP2E; LibraryName: jumper; Package: JP9Q
footprint JP9Q
part A pins: 1, 2
part B pins: 3 1, 4 2
part C pins: 5 1, 6 2
part D pins: 7 1, 8 2
part E pins: 9 1, 10 2
part F pins: 11 1, 12 2
part G pins: 13 1, 14 2
part H pins: 15 1, 16 2
part I pins: 17 1, 18 2

## JP10Q
designator JP?, comment JUMPER
GateName_1: B; SymbolName_1: J10; DeviceSetName: JP10Q; POPULARITY: 2; LibraryName: jumper; Package: JP10Q
footprint JP10Q
pins: 1, 2, 3, 4, 5, 6, 7, 8, 9, 10, 11, 12, 13, 14, 15, 16, 17, 18, 19, 20

## JP10QE
designator JP?, comment JUMPER
GateName_1: -1; SymbolName_1: JP2E; GateName_2: -2; GateName_3: -3; GateName_4: -4; GateName_5: -5; GateName_6: -6; GateName_7: -7; GateName_8: -8; GateName_9: -9; GateName_10: -10; DeviceSetName: JP10QE; POPULARITY: 0; SymbolName_2: JP2E; SymbolName_3: JP2E; SymbolName_4: JP2E; SymbolName_5: JP2E; SymbolName_6: JP2E; SymbolName_7: JP2E; SymbolName_8: JP2E; SymbolName_9: JP2E; SymbolName_10: JP2E; LibraryName: jumper; Package: JP10Q
footprint JP10Q
part A pins: 1, 2
part B pins: 3 1, 4 2
part C pins: 5 1, 6 2
part D pins: 7 1, 8 2
part E pins: 9 1, 10 2
part F pins: 11 1, 12 2
part G pins: 13 1, 14 2
part H pins: 15 1, 16 2
part I pins: 17 1, 18 2
part J pins: 19 1, 20 2

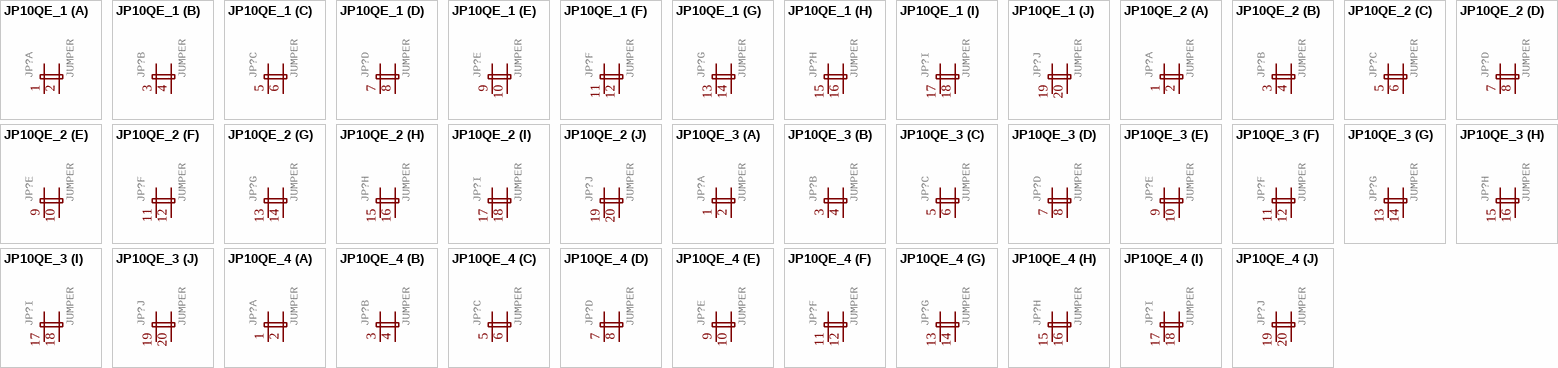
[diagram p8: symbols JP10QE_1 to JP10QE_4]

## JP10QE_1
designator JP?, comment JUMPER
GateName_1: -1; SymbolName_1: JP2E; GateName_2: -2; GateName_3: -3; GateName_4: -4; GateName_5: -5; GateName_6: -6; GateName_7: -7; GateName_8: -8; GateName_9: -9; GateName_10: -10; DeviceSetName: JP10QE; POPULARITY: 0; SymbolName_2: JP2E; SymbolName_3: JP2E; SymbolName_4: JP2E; SymbolName_5: JP2E; SymbolName_6: JP2E; SymbolName_7: JP2E; SymbolName_8: JP2E; SymbolName_9: JP2E; SymbolName_10: JP2E; LibraryName: jumper; Package: JP10Q
footprint JP10Q
part A pins: 1, 2
part B pins: 3 1, 4 2
part C pins: 5 1, 6 2
part D pins: 7 1, 8 2
part E pins: 9 1, 10 2
part F pins: 11 1, 12 2
part G pins: 13 1, 14 2
part H pins: 15 1, 16 2
part I pins: 17 1, 18 2
part J pins: 19 1, 20 2

## JP10QE_2
designator JP?, comment JUMPER
GateName_1: -1; SymbolName_1: JP2E; GateName_2: -2; GateName_3: -3; GateName_4: -4; GateName_5: -5; GateName_6: -6; GateName_7: -7; GateName_8: -8; GateName_9: -9; GateName_10: -10; DeviceSetName: JP10QE; POPULARITY: 0; SymbolName_2: JP2E; SymbolName_3: JP2E; SymbolName_4: JP2E; SymbolName_5: JP2E; SymbolName_6: JP2E; SymbolName_7: JP2E; SymbolName_8: JP2E; SymbolName_9: JP2E; SymbolName_10: JP2E; LibraryName: jumper; Package: JP10Q
footprint JP10Q
part A pins: 1, 2
part B pins: 3 1, 4 2
part C pins: 5 1, 6 2
part D pins: 7 1, 8 2
part E pins: 9 1, 10 2
part F pins: 11 1, 12 2
part G pins: 13 1, 14 2
part H pins: 15 1, 16 2
part I pins: 17 1, 18 2
part J pins: 19 1, 20 2

## JP10QE_3
designator JP?, comment JUMPER
GateName_1: -1; SymbolName_1: JP2E; GateName_2: -2; GateName_3: -3; GateName_4: -4; GateName_5: -5; GateName_6: -6; GateName_7: -7; GateName_8: -8; GateName_9: -9; GateName_10: -10; DeviceSetName: JP10QE; POPULARITY: 0; SymbolName_2: JP2E; SymbolName_3: JP2E; SymbolName_4: JP2E; SymbolName_5: JP2E; SymbolName_6: JP2E; SymbolName_7: JP2E; SymbolName_8: JP2E; SymbolName_9: JP2E; SymbolName_10: JP2E; LibraryName: jumper; Package: JP10Q
footprint JP10Q
part A pins: 1, 2
part B pins: 3 1, 4 2
part C pins: 5 1, 6 2
part D pins: 7 1, 8 2
part E pins: 9 1, 10 2
part F pins: 11 1, 12 2
part G pins: 13 1, 14 2
part H pins: 15 1, 16 2
part I pins: 17 1, 18 2
part J pins: 19 1, 20 2

## JP10QE_4
designator JP?, comment JUMPER
GateName_1: -1; SymbolName_1: JP2E; GateName_2: -2; GateName_3: -3; GateName_4: -4; GateName_5: -5; GateName_6: -6; GateName_7: -7; GateName_8: -8; GateName_9: -9; GateName_10: -10; DeviceSetName: JP10QE; POPULARITY: 0; SymbolName_2: JP2E; SymbolName_3: JP2E; SymbolName_4: JP2E; SymbolName_5: JP2E; SymbolName_6: JP2E; SymbolName_7: JP2E; SymbolName_8: JP2E; SymbolName_9: JP2E; SymbolName_10: JP2E; LibraryName: jumper; Package: JP10Q
footprint JP10Q
part A pins: 1, 2
part B pins: 3 1, 4 2
part C pins: 5 1, 6 2
part D pins: 7 1, 8 2
part E pins: 9 1, 10 2
part F pins: 11 1, 12 2
part G pins: 13 1, 14 2
part H pins: 15 1, 16 2
part I pins: 17 1, 18 2
part J pins: 19 1, 20 2

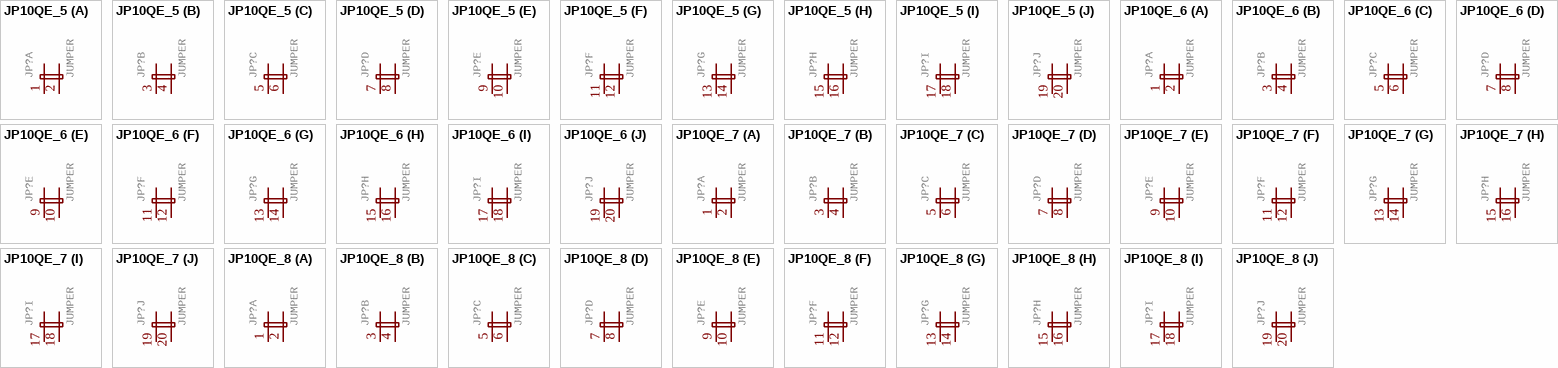
[diagram p9: symbols JP10QE_5 to JP10QE_8]

## JP10QE_5
designator JP?, comment JUMPER
GateName_1: -1; SymbolName_1: JP2E; GateName_2: -2; GateName_3: -3; GateName_4: -4; GateName_5: -5; GateName_6: -6; GateName_7: -7; GateName_8: -8; GateName_9: -9; GateName_10: -10; DeviceSetName: JP10QE; POPULARITY: 0; SymbolName_2: JP2E; SymbolName_3: JP2E; SymbolName_4: JP2E; SymbolName_5: JP2E; SymbolName_6: JP2E; SymbolName_7: JP2E; SymbolName_8: JP2E; SymbolName_9: JP2E; SymbolName_10: JP2E; LibraryName: jumper; Package: JP10Q
footprint JP10Q
part A pins: 1, 2
part B pins: 3 1, 4 2
part C pins: 5 1, 6 2
part D pins: 7 1, 8 2
part E pins: 9 1, 10 2
part F pins: 11 1, 12 2
part G pins: 13 1, 14 2
part H pins: 15 1, 16 2
part I pins: 17 1, 18 2
part J pins: 19 1, 20 2

## JP10QE_6
designator JP?, comment JUMPER
GateName_1: -1; SymbolName_1: JP2E; GateName_2: -2; GateName_3: -3; GateName_4: -4; GateName_5: -5; GateName_6: -6; GateName_7: -7; GateName_8: -8; GateName_9: -9; GateName_10: -10; DeviceSetName: JP10QE; POPULARITY: 0; SymbolName_2: JP2E; SymbolName_3: JP2E; SymbolName_4: JP2E; SymbolName_5: JP2E; SymbolName_6: JP2E; SymbolName_7: JP2E; SymbolName_8: JP2E; SymbolName_9: JP2E; SymbolName_10: JP2E; LibraryName: jumper; Package: JP10Q
footprint JP10Q
part A pins: 1, 2
part B pins: 3 1, 4 2
part C pins: 5 1, 6 2
part D pins: 7 1, 8 2
part E pins: 9 1, 10 2
part F pins: 11 1, 12 2
part G pins: 13 1, 14 2
part H pins: 15 1, 16 2
part I pins: 17 1, 18 2
part J pins: 19 1, 20 2

## JP10QE_7
designator JP?, comment JUMPER
GateName_1: -1; SymbolName_1: JP2E; GateName_2: -2; GateName_3: -3; GateName_4: -4; GateName_5: -5; GateName_6: -6; GateName_7: -7; GateName_8: -8; GateName_9: -9; GateName_10: -10; DeviceSetName: JP10QE; POPULARITY: 0; SymbolName_2: JP2E; SymbolName_3: JP2E; SymbolName_4: JP2E; SymbolName_5: JP2E; SymbolName_6: JP2E; SymbolName_7: JP2E; SymbolName_8: JP2E; SymbolName_9: JP2E; SymbolName_10: JP2E; LibraryName: jumper; Package: JP10Q
footprint JP10Q
part A pins: 1, 2
part B pins: 3 1, 4 2
part C pins: 5 1, 6 2
part D pins: 7 1, 8 2
part E pins: 9 1, 10 2
part F pins: 11 1, 12 2
part G pins: 13 1, 14 2
part H pins: 15 1, 16 2
part I pins: 17 1, 18 2
part J pins: 19 1, 20 2

## JP10QE_8
designator JP?, comment JUMPER
GateName_1: -1; SymbolName_1: JP2E; GateName_2: -2; GateName_3: -3; GateName_4: -4; GateName_5: -5; GateName_6: -6; GateName_7: -7; GateName_8: -8; GateName_9: -9; GateName_10: -10; DeviceSetName: JP10QE; POPULARITY: 0; SymbolName_2: JP2E; SymbolName_3: JP2E; SymbolName_4: JP2E; SymbolName_5: JP2E; SymbolName_6: JP2E; SymbolName_7: JP2E; SymbolName_8: JP2E; SymbolName_9: JP2E; SymbolName_10: JP2E; LibraryName: jumper; Package: JP10Q
footprint JP10Q
part A pins: 1, 2
part B pins: 3 1, 4 2
part C pins: 5 1, 6 2
part D pins: 7 1, 8 2
part E pins: 9 1, 10 2
part F pins: 11 1, 12 2
part G pins: 13 1, 14 2
part H pins: 15 1, 16 2
part I pins: 17 1, 18 2
part J pins: 19 1, 20 2

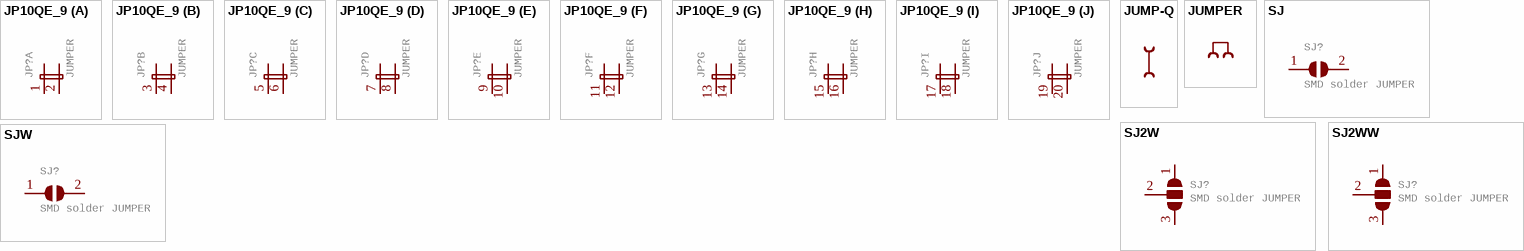
[diagram p10: symbols JP10QE_9 to SJW]

## JP10QE_9
designator JP?, comment JUMPER
GateName_1: -1; SymbolName_1: JP2E; GateName_2: -2; GateName_3: -3; GateName_4: -4; GateName_5: -5; GateName_6: -6; GateName_7: -7; GateName_8: -8; GateName_9: -9; GateName_10: -10; DeviceSetName: JP10QE; POPULARITY: 0; SymbolName_2: JP2E; SymbolName_3: JP2E; SymbolName_4: JP2E; SymbolName_5: JP2E; SymbolName_6: JP2E; SymbolName_7: JP2E; SymbolName_8: JP2E; SymbolName_9: JP2E; SymbolName_10: JP2E; LibraryName: jumper; Package: JP10Q
footprint JP10Q
part A pins: 1, 2
part B pins: 3 1, 4 2
part C pins: 5 1, 6 2
part D pins: 7 1, 8 2
part E pins: 9 1, 10 2
part F pins: 11 1, 12 2
part G pins: 13 1, 14 2
part H pins: 15 1, 16 2
part I pins: 17 1, 18 2
part J pins: 19 1, 20 2

## JUMP-Q
designator J?, comment JUMPER header  (value not drawn)
GateName_1: G$1; SymbolName_1: JUMP1; DeviceSetName: JUMP-Q; POPULARITY: 1; LibraryName: jumper; Package: JUMP
footprint JUMP

## JUMPER
designator J?, comment JUMPER header  (value not drawn)
GateName_1: B1; SymbolName_1: JUMP; POPULARITY: 0; LibraryName: jumper; DeviceSetName: JUMPER; Package: JUMP
footprint JUMP

## SJ
designator SJ?, comment SMD solder JUMPER
GateName_1: 1; SymbolName_1: SJ; POPULARITY: 33; LibraryName: jumper; DeviceSetName: SJ; Package: SJ
footprint SJ
pins: 1, 2

## SJ2W
designator SJ?, comment SMD solder JUMPER
GateName_1: G$1; SymbolName_1: SJ_2; DeviceSetName: SJ2W; POPULARITY: 7; LibraryName: jumper; Package: SJ_2
footprint SJ_2
pins: 1, 2, 3

## SJ2WW
designator SJ?, comment SMD solder JUMPER
GateName_1: G$1; SymbolName_1: SJ_2; DeviceName: W; DeviceSetName: SJ2W; POPULARITY: 1; LibraryName: jumper; Package: SJ_2W
footprint SJ_2W
pins: 1, 2, 3

## SJW
designator SJ?, comment SMD solder JUMPER
GateName_1: 1; SymbolName_1: SJ; DeviceName: W; POPULARITY: 3; LibraryName: jumper; DeviceSetName: SJ; Package: SJW
footprint SJW
pins: 1, 2